# Altium footprint library TMLM05105.PcbLib: 1 footprints
Each footprint in its own frame and in the unit in brackets; x right, y up, seen from the top. Pads: shape width x height; smd on the part's side, far side on the other; paste and mask are expansions set on the pad; w line width, h text height; cw(c..) or ccw(c..) is an arc to the next point about the centre after c.
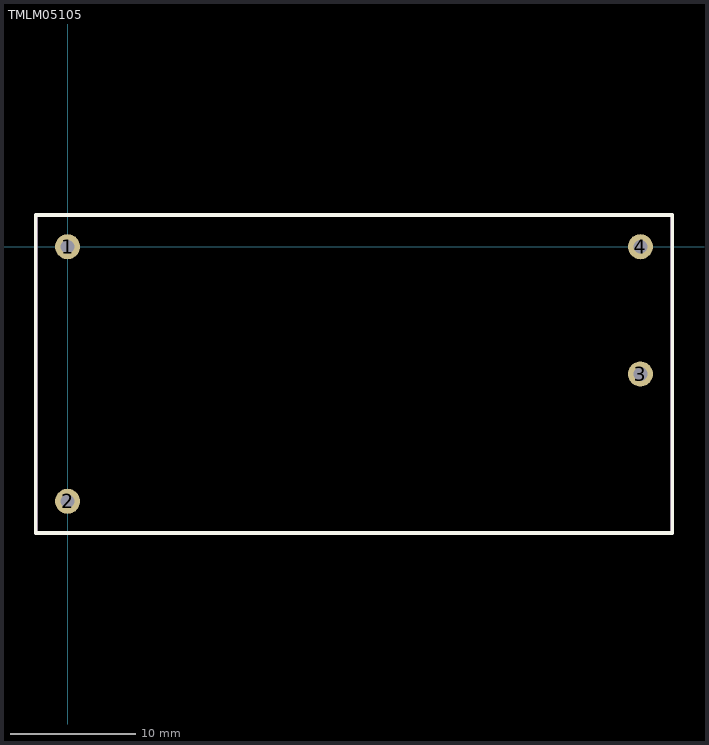
[diagram p0: the footprint, top view; thin cyan lines are the x and y axes]

## TMLM05105 [mm]
pads (4):
  round 2 hole 1.1: 1(0,0) 2(0,-20.32) 3(45.72,-10.16) 4(45.72,0)
Top Overlay:
  lines w0.3: -2.54,-22.86 -2.54,2.54 48.26,2.54 48.26,-22.86 -2.54,-22.86
TopAssy:
  lines w0.3: -2.54,-22.86 48.26,-22.86 48.26,2.54 -2.54,2.54 -2.54,-22.86
3D body: height 15.16, standoff 0.5, extent -2.54,-22.86 48.26,2.54